# Altium footprint library Passives.PcbLib: 72 footprints (part 5 of 5)
Each footprint in its own frame and in the unit in brackets; x right, y up, seen from the top. Pads: shape width x height; smd on the part's side, far side on the other; paste and mask are expansions set on the pad; w line width, h text height; cw(c..) or ccw(c..) is an arc to the next point about the centre after c.
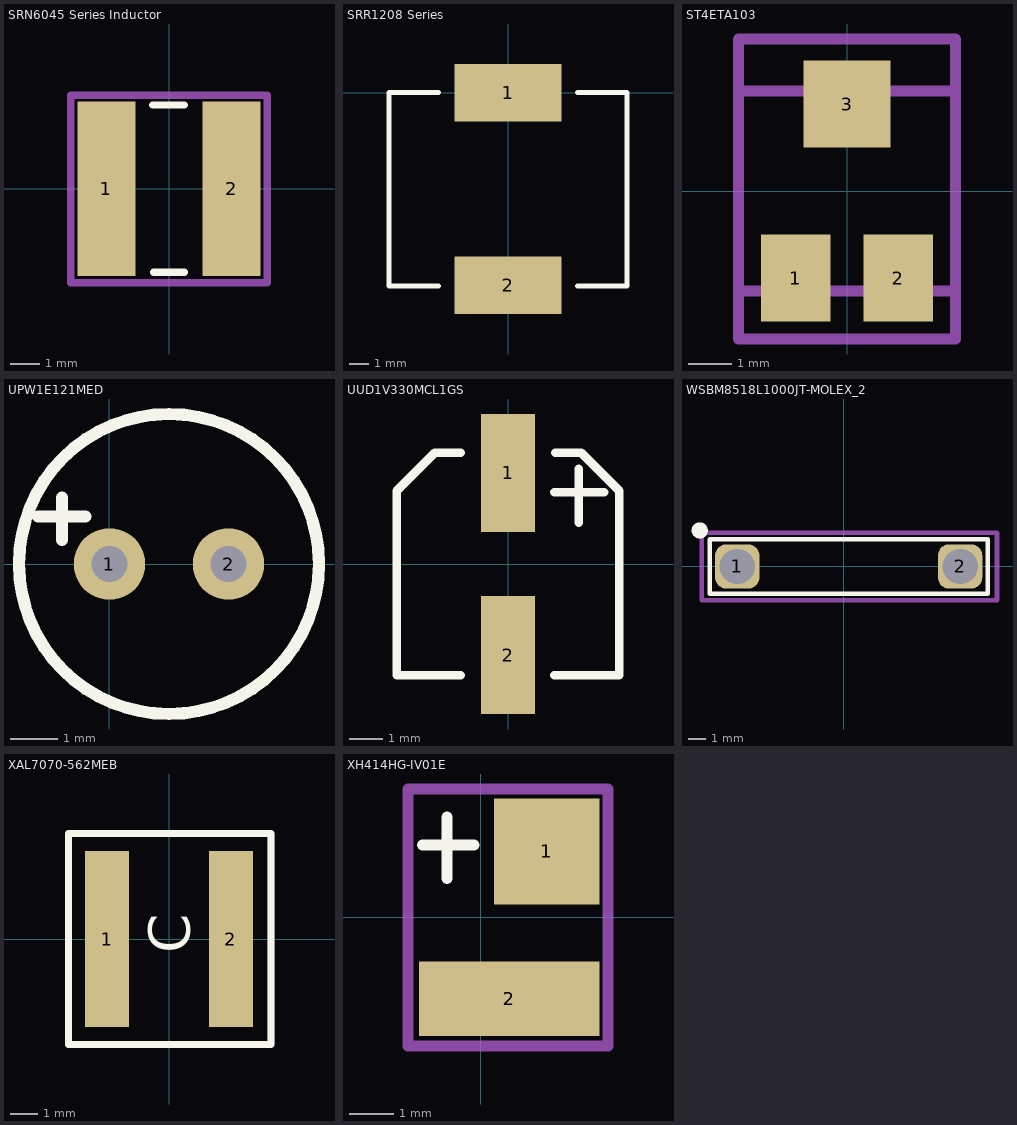
[diagram p4: the footprints below, top view; thin cyan lines are the x and y axes]

## SRN6045 Series Inductor [mm] "SRN 6045 Series Inductor Bourns Inc"
height 4.5
pads (2):
  rect 2x6 smd: 1(-2.15,0) 2(2.15,0)
Top Overlay:
  lines w0.254: -0.559,2.87 0.533,2.87 ; -0.533,-2.87 0.533,-2.87
Mechanical 15:
  lines w0.254: -3.378,-3.226 3.378,-3.226 3.378,3.2 -3.378,3.2 -3.378,-3.226
3D body "srn6045.stp": height 4.5, standoff 0, extent -3,-3 3,3

## SRR1208 Series [mm] "SSR1208 Series Inductor from Bourns Inc"
height 8.5
pads (2):
  rect 5.4x2.9 smd: 1(0,0) 2(0,-9.7)
Top Overlay:
  lines w0.254: -3.5,-9.728 -6,-9.728 -6,0 -3.5,0 ; 3.5,-9.728 6,-9.728 6,0 3.5,0

## ST4ETA103 [mm] "TRIMMER 10K OHM 0.25W SMD"
height 2.3
pads (3):
  rect 1.6x2 smd: 1(-1.175,-2) 2(1.175,-2)
  rect 2x2 smd: 3(0,2)
Mechanical 13:
  lines w0.254: -2.5,-2.3 -2.5,2.3 2.5,2.3 2.5,-2.3 -2.5,-2.3
Mechanical 15:
  lines w0.254: -2.5,-3.4 -2.5,3.5 2.5,3.5 2.5,-3.4 -2.5,-3.4
3D body: height 2.3, standoff 0, extent -2.5,-2.3 2.5,2.3

## UPW1E121MED [mm] "CAP ALUM 120UF 25V 20% RADIAL"
height 15
pads (2):
  round 1.5 hole 0.75: 1(0,0) 2(2.5,0)
Top Overlay:
  circle w0.254: c1.25,0 r3.15
  lines w0.25: -1.5,1 -0.5,1 ; -1,0.5 -1,1.4
3D body: height 15, standoff 0, extent -1.925,-3.144 4.35,3.144

## UUD1V330MCL1GS [mm] "CAP ALUM 33UF 20% 35V SMD"
height 5.8
pads (2):
  rect 1.6x3.5 smd: 1(0,2.7) 2(0,-2.7)
Top Overlay:
  lines w0.254: -1.4,-3.3 -3.3,-3.3 -3.3,2.175 -2.175,3.3 -1.4,3.3 ; 1.375,-3.3 3.3,-3.3 3.3,2.175 2.175,3.3 1.4,3.3 ; 1.375,2.125 2.85,2.125 ; 2.1,1.225 2.1,2.825
3D body: height 5.8, standoff 0, extent -3.15,-3.149 3.15,3.149

## WSBM8518L1000JT-MOLEX_2 [mm] "2 shunt resistor pins of MOLEX type WSBM8518L1000JT"
pads (2):
  rrect50% 2.5x2.5 hole 2: 1(-6.015,0) 2(6.555,0)
Top Overlay:
  circle w0.6: c-8.128,2.032 r0.154
  lines w0.254: -7.555,-1.524 8.128,-1.524 8.128,1.524 -7.555,1.524 -7.555,-1.524
Mechanical 15:
  lines w0.254: -8.001,-1.905 8.636,-1.905 8.636,1.905 -8.001,1.905 -8.001,-1.905

## XAL7070-562MEB [mm] "5.6uH inductor"
height 7
pads (2):
  rect 1.63x6.5 smd: 1(-2.285,0) 2(2.285,0)
Top Overlay:
  lines w0.254: 3.734,3.886 -3.708,3.886 -3.708,-3.886 3.759,-3.886 3.759,3.886
  text "C" at 0.762,-0.533 h1.52
Mechanical 15:
  lines w0.254: -3.708,-3.886 3.759,-3.886 3.759,3.886 -3.708,3.886
3D body "Coilcraft-XAL7070-562-DEFAULT.STEP": height 7, standoff 0, extent -3.824,-4 3.876,4

## XH414HG-IV01E [mm] "CAP 80MF 3.3V SURFACE MOUNT"
height 1.85
pads (2):
  rect 2.4x2.4 smd: 1(1.5,1.5)
  rect 4.1x1.7 smd: 2(0.65,-1.85)
Top Overlay:
  lines w0.254: -1.321,1.651 -0.152,1.651 ; -0.762,0.889 -0.762,2.286
Mechanical 15:
  lines w0.254: -1.651,-2.921 2.896,-2.921 2.896,2.921 -1.651,2.921 -1.651,-2.921
3D body: height 1.85, standoff 0, extent -1.816,-2.501 2.984,2.298